# EAGLE library part MIC29152WD (library my_ic)
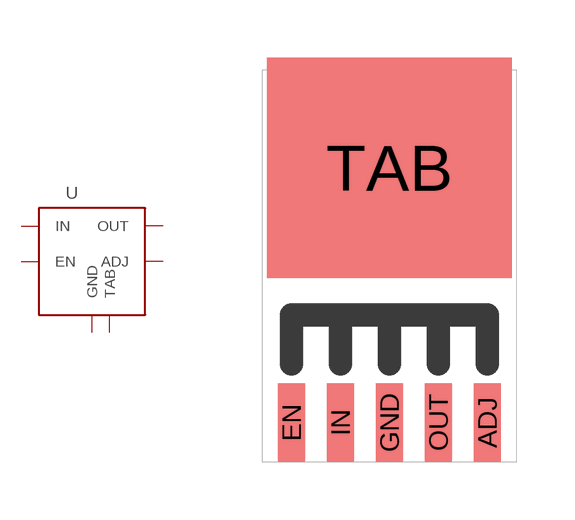
[diagram p11: symbol with the pads of TO252; footprint TO252]

Designator prefix -

## MIC29152WD  [TO252]
ADJ  ADJ  pas
EN  EN
GND  GND  pwr
IN  IN  pwr
OUT  OUT  pwr
TAB  TAB  pwr

## Footprint TO252 (pad centres in mm)
smd 0.711 x 2.032: ADJ 2.54,-4.064; EN -2.54,-4.064; GND 0,-4.064; IN -1.27,-4.064; OUT 1.27,-4.064
smd 6.35 x 5.715: TAB 0,2.54